# Altium footprint library PCBs.pcblib: 37 footprints (part 2 of 3)
Each footprint in its own frame and in the unit in brackets; x right, y up, seen from the top. Pads: shape width x height; smd on the part's side, far side on the other; paste and mask are expansions set on the pad; w line width, h text height; cw(c..) or ccw(c..) is an arc to the next point about the centre after c.
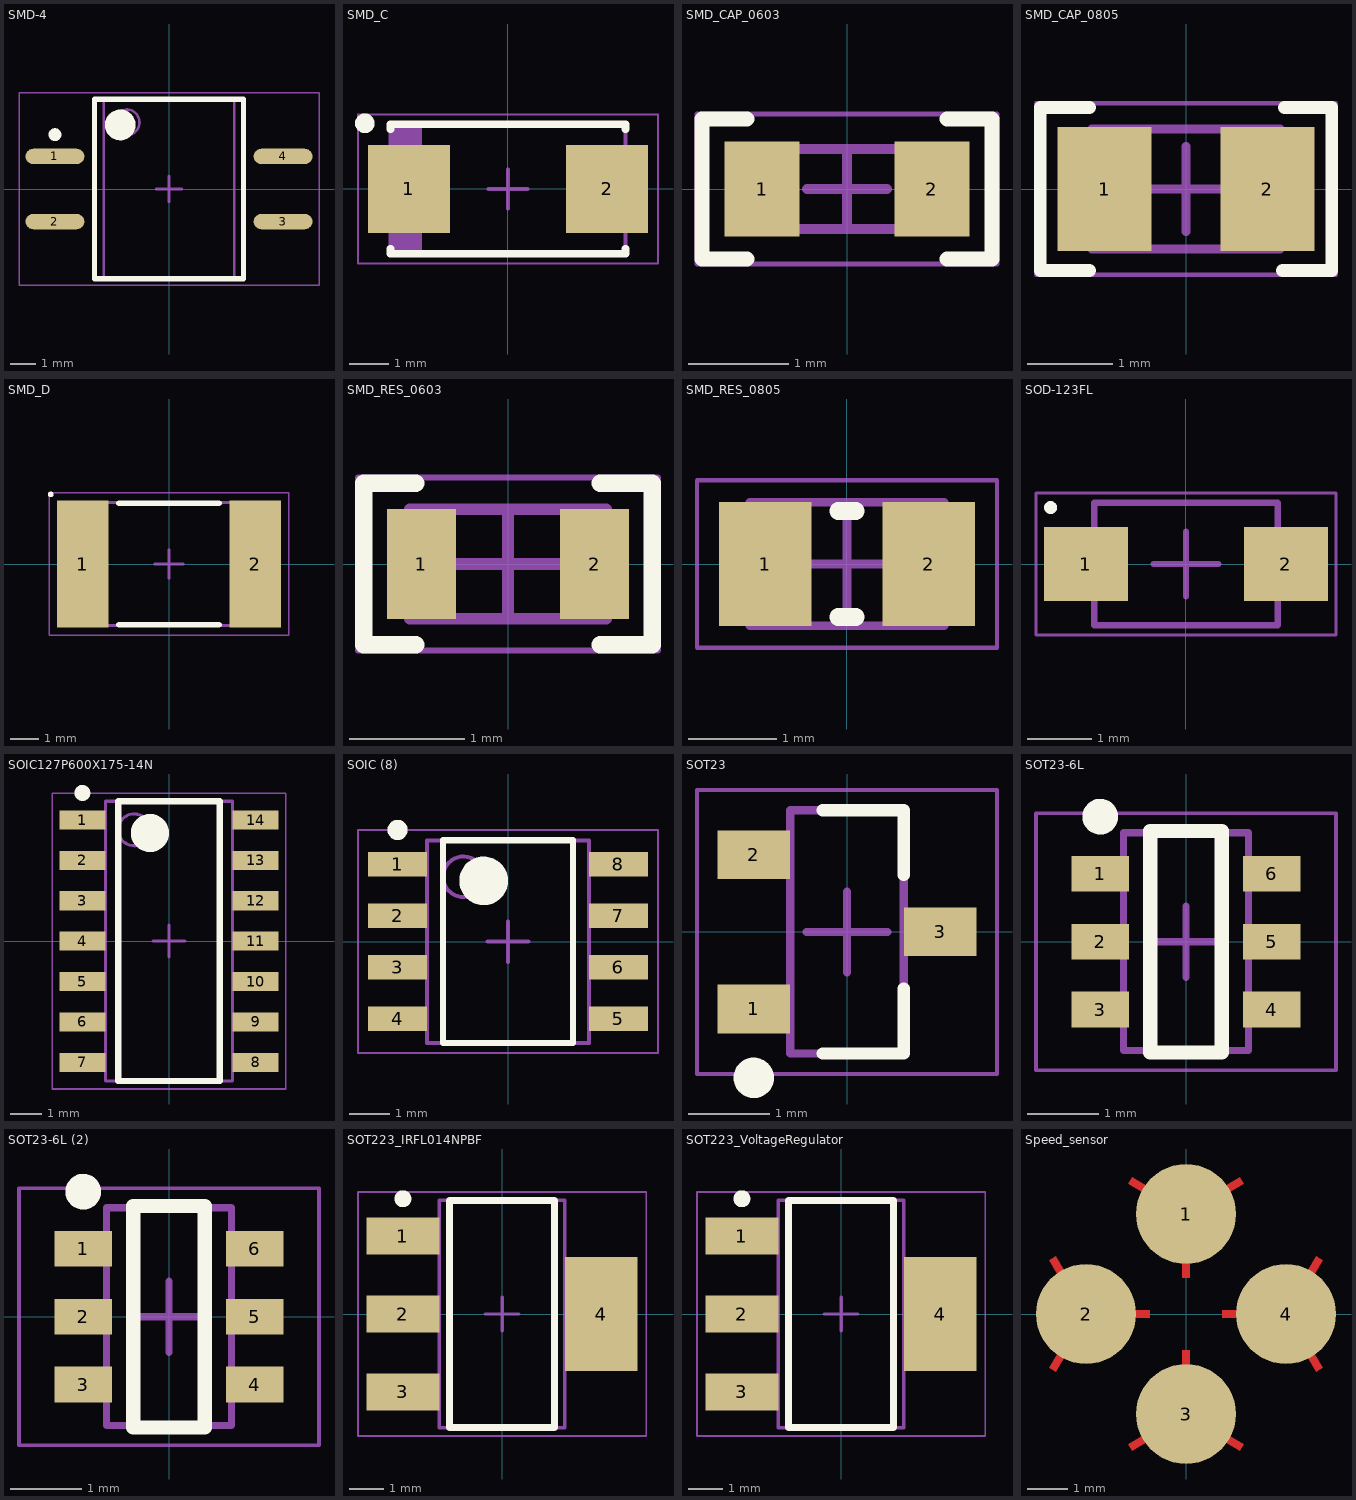
[diagram p1: the footprints below, top view; thin cyan lines are the x and y axes]

## SMD-4 [mm] "SOP, 4-Leads, Body 6,50x4,60mm, Pitch 2,54mm, IPC Medium Density"
height 4
pads (4):
  oval 2.3x0.6 smd: 1(-4.45,1.27) 2(-4.45,-1.27) 3(4.45,-1.27) 4(4.45,1.27)
Top Overlay:
  circle w0.6: c-1.9,2.5 r0.3
  circle w0.25: c-4.45,2.12 r0.125
  lines w0.2: -2.9,-3.5 2.9,-3.5 2.9,3.5 -2.9,3.5 -2.9,-3.5
Mechanical 13:
  circle w0.1: c-1.65,2.6 r0.5
  lines w0.1: -2.55,-3.5 2.55,-3.5 2.55,3.5 -2.55,3.5 -2.55,-3.5
Mechanical 15:
  lines w0.05: -5.85,-3.75 5.85,-3.75 5.85,3.75 -5.85,3.75 -5.85,-3.75
  lines w0.1: -0.5,0 0.5,0 ; 0,-0.5 0,0.5
3D body "SMD-4.step": height 4, standoff 0, extent -5.08,-3.5 5.08,3.5

## SMD_C [mm] "Molded Capacitor, 2-Leads, Body 6,00x3,20mm, IPC Medium Density"
height 2.5
pads (2):
  rect 2.1x2.25 smd: 1(-2.525,0) 2(2.525,0)
Top Overlay:
  circle w0.25: c-3.65,1.675 r0.125
  lines w0.2: -3,-1.525 -3,-1.65 3,-1.65 3,-1.525 ; -3,1.525 -3,1.65 3,1.65 3,1.525
Mechanical 13:
  rectangle: -3,-1.6 -2.193,1.6
  lines w0.1: -3,-1.6 -3,1.6 3,1.6 3,-1.6 -3,-1.6
Mechanical 15:
  lines w0.05: -3.825,-1.9 -3.825,1.9 3.825,1.9 3.825,-1.9 -3.825,-1.9
  lines w0.1: -0.5,0 0.5,0 ; 0,-0.5 0,0.5
3D body "SMD_C.step": height 2.5, standoff 0, extent -3.22,-1.6 3.22,1.6

## SMD_CAP_0603 [mm]
height 0.9
pads (2):
  rect 0.75x0.95 smd: 1(-0.85,0) 2(0.85,0)
Top Overlay:
  lines w0.15: -1,-0.7 -1.45,-0.7 -1.45,0.7 -1,0.7 ; 1,-0.7 1.45,-0.7 1.45,0.7 1,0.7
Mechanical 13:
  lines w0.1: -0.8,-0.4 -0.8,0.4 0.8,0.4 0.8,-0.4 -0.8,-0.4
Mechanical 15:
  lines w0.05: -1.5,-0.75 -1.5,0.75 1.5,0.75 1.5,-0.75 -1.5,-0.75
  lines w0.1: -0.4,0 0.4,0 ; 0,-0.4 0,0.4
3D body "SMD_CAP_0603.step": height 0.9, standoff 0, extent -0.8,-0.4 0.8,0.4

## SMD_CAP_0805 [mm]
height 0.55
pads (2):
  rect 1.1x1.45 smd: 1(-0.95,0) 2(0.95,0)
Top Overlay:
  lines w0.15: -1.125,-0.95 -1.7,-0.95 -1.7,0.95 -1.125,0.95 ; 1.125,-0.95 1.7,-0.95 1.7,0.95 1.15,0.95
Mechanical 13:
  lines w0.1: -1.1,-0.7 -1.1,0.7 1.1,0.7 1.1,-0.7 -1.1,-0.7
Mechanical 15:
  lines w0.05: -1.75,-1 -1.75,1 1.75,1 1.75,-1 -1.75,-1
  lines w0.1: -0.5,0 0.5,0 ; 0,-0.5 0,0.5
3D body "SMD_CAP_0805.step": height 0.55, standoff 0, extent -1.1,-0.7 1.1,0.7

## SMD_D [mm]
height 2.8
pads (2):
  rect 1.8x4.45 smd: 1(-3.025,0) 2(3.025,0)
Top Overlay:
  circle w0.1: c-4.137,2.437 r0.05
  lines w0.2: -1.75,-2.125 1.75,-2.125 ; -1.75,2.125 1.75,2.125
Mechanical 13:
  lines w0.1: -3.5,-2.15 -3.5,2.15 3.5,2.15 3.5,-2.15 -3.5,-2.15
Mechanical 15:
  lines w0.05: -4.2,-2.5 -4.2,2.5 4.2,2.5 4.2,-2.5 -4.2,-2.5
  lines w0.1: -0.5,0 0.5,0 ; 0,-0.5 0,0.5
3D body "SMD_D.step": height 2.8, standoff 0, extent -3.5,-2.15 3.5,2.15

## SMD_RES_0603 [mm] "Chip Resistor, 2-Leads, Body 1,60x0,85mm, IPC Medium Density"
height 0.5
pads (2):
  rect 0.6x0.95 smd: 1(-0.75,0) 2(0.75,0)
Top Overlay:
  lines w0.15: -0.8,-0.7 -1.25,-0.7 -1.25,0.7 -0.8,0.7 ; 0.8,-0.7 1.25,-0.7 1.25,0.7 0.8,0.7
Mechanical 13:
  lines w0.1: -0.85,-0.475 -0.85,0.475 0.85,0.475 0.85,-0.475 -0.85,-0.475
Mechanical 15:
  lines w0.05: -1.3,-0.75 -1.3,0.75 1.3,0.75 1.3,-0.75 -1.3,-0.75
  lines w0.1: -0.475,0 0.475,0 ; 0,-0.475 0,0.475
3D body: height 0.5, standoff 0, extent -0.65,-0.475 0.65,0.475
3D body: height 0.5, standoff 0, extent -0.85,-0.475 -0.65,0.475
3D body: height 0.5, standoff 0, extent 0.65,-0.475 0.85,0.475

## SMD_RES_0805 [mm] "Chip Resistor, 2-Leads, Body 2,10x1,30mm, IPC Medium Density"
height 1.4
pads (2):
  rect 1.05x1.4 smd: 1(-0.925,0) 2(0.925,0)
Top Overlay:
  lines w0.2: -0.1,-0.6 0.1,-0.6 ; -0.1,0.6 0.1,0.6
Mechanical 13:
  lines w0.1: -1.1,-0.7 1.1,-0.7 1.1,0.7 -1.1,0.7 -1.1,-0.7
Mechanical 15:
  lines w0.05: -1.7,-0.95 1.7,-0.95 1.7,0.95 -1.7,0.95 -1.7,-0.95
  lines w0.1: -0.5,0 0.5,0 ; 0,-0.5 0,0.5
3D body "RES_0805.step": height 1.4, standoff 0, extent -1.1,-0.7 1.1,0.7

## SOD-123FL [mm]
height 1.2
pads (2):
  rect 1.3x1.15 smd: 1(-1.55,0) 2(1.55,0)
Top Overlay:
  circle w0.1: c-2.1,0.875 r0.05
Mechanical 13:
  lines w0.1: -1.425,-0.95 1.425,-0.95 1.425,0.95 -1.425,0.95 -1.425,-0.95
Mechanical 15:
  lines w0.05: -2.325,-1.1 2.325,-1.1 2.325,1.1 -2.325,1.1 -2.325,-1.1
  lines w0.1: -0.5,0 0.5,0 ; 0,-0.5 0,0.5
3D body "SOD-123FL.step": height 1.2, standoff 0, extent -1.875,-0.95 1.875,0.95

## SOIC127P600X175-14N [mm] "SOIC, 14-Leads, Body 8,63x3,90mm, Pitch 1,27mm, IPC Medium Density"
height 1.75
pads (14):
  rect 1.45x0.6 smd: 1(-2.725,3.81) 2(-2.725,2.54) 3(-2.725,1.27) 4(-2.725,0) 5(-2.725,-1.27) 6(-2.725,-2.54) 7(-2.725,-3.81) 8(2.725,-3.81) 9(2.725,-2.54) 10(2.725,-1.27) 11(2.725,0) 12(2.725,1.27) 13(2.725,2.54) 14(2.725,3.81)
Top Overlay:
  circle w0.6: c-0.6,3.4 r0.3
  circle w0.25: c-2.725,4.66 r0.125
  lines w0.2: -1.6,-4.4 1.6,-4.4 1.6,4.4 -1.6,4.4 -1.6,-4.4
Mechanical 13:
  circle w0.1: c-1.1,3.5 r0.5
  lines w0.1: -2,-4.4 2,-4.4 2,4.4 -2,4.4 -2,-4.4
Mechanical 15:
  lines w0.05: -3.675,-4.65 3.675,-4.65 3.675,4.65 -3.675,4.65 -3.675,-4.65
  lines w0.1: -0.5,0 0.5,0 ; 0,-0.5 0,0.5
3D body "SOIC127P600X175-14N.step": height 1.75, standoff 0, extent -3,-4.4 3,4.4

## SOIC (8) [mm] "SOIC, 8-Leads, Body 4,90x3,90mm, Pitch 1,27mm, IPC Medium Density"
height 1.75
pads (8):
  rect 1.45x0.6 smd: 1(-2.725,1.905) 2(-2.725,0.635) 3(-2.725,-0.635) 4(-2.725,-1.905) 5(2.725,-1.905) 6(2.725,-0.635) 7(2.725,0.635) 8(2.725,1.905)
Top Overlay:
  circle w0.6: c-0.6,1.5 r0.3
  circle w0.25: c-2.725,2.755 r0.125
  lines w0.15: -1.6,-2.5 1.6,-2.5 1.6,2.5 -1.6,2.5 -1.6,-2.5
Mechanical 13:
  circle w0.1: c-1.1,1.6 r0.5
  lines w0.1: -2,-2.5 2,-2.5 2,2.5 -2,2.5 -2,-2.5
Mechanical 15:
  lines w0.05: -3.7,-2.75 3.7,-2.75 3.7,2.75 -3.7,2.75 -3.7,-2.75
  lines w0.1: -0.5,0 0.5,0 ; 0,-0.5 0,0.5
3D body: height 1.75, standoff 0.1, extent -2,-2.5 2,2.5

## SOT23 [mm] "SOT23, 3-Leads, Body 2,90x2,30mm, Pitch 0,95mm, IPC Medium Density"
height 1.1
pads (3):
  rect 0.9x0.6 smd: 1(-1.15,-0.95) 2(-1.15,0.95) 3(1.15,0)
Top Overlay:
  circle w0.25: c-1.15,-1.8 r0.125
  lines w0.15: -0.3,-1.5 0.7,-1.5 0.7,-0.7 ; -0.3,1.5 0.7,1.5 0.7,0.7
Mechanical 13:
  lines w0.1: -0.7,-1.5 -0.7,1.5 0.7,1.5 0.7,-1.5 -0.7,-1.5
Mechanical 15:
  lines w0.05: -1.85,-1.75 -1.85,1.75 1.85,1.75 1.85,-1.75 -1.85,-1.75
  lines w0.1: -0.5,0 0.5,0 ; 0,-0.5 0,0.5
3D body "SOT230.step": height 1.1, standoff 0, extent -1.3,-1.5 1.3,1.5

## SOT23-6L [mm]
height 1.45
pads (6):
  rect 0.8x0.5 smd: 1(-1.2,0.95) 2(-1.2,0) 3(-1.2,-0.95) 4(1.2,-0.95) 5(1.2,0) 6(1.2,0.95)
Top Overlay:
  circle w0.25: c-1.2,1.75 r0.125
  lines w0.2: -0.5,-1.55 -0.5,1.55 0.5,1.55 0.5,-1.55 -0.5,-1.55
Mechanical 13:
  lines w0.1: -0.875,-1.525 0.875,-1.525 0.875,1.525 -0.875,1.525 -0.875,-1.525
Mechanical 15:
  lines w0.05: -2.1,-1.8 2.1,-1.8 2.1,1.8 -2.1,1.8 -2.1,-1.8
  lines w0.1: -0.5,0 0.5,0 ; 0,-0.5 0,0.5
3D body: height 1.45, standoff 0.1, extent -0.875,-1.525 0.875,1.525

## SOT23-6L (2) [mm]
height 1.45
pads (6):
  rect 0.8x0.5 smd: 1(-1.2,0.95) 2(-1.2,0) 3(-1.2,-0.95) 4(1.2,-0.95) 5(1.2,0) 6(1.2,0.95)
Top Overlay:
  circle w0.25: c-1.2,1.75 r0.125
  lines w0.2: -0.5,-1.55 -0.5,1.55 0.5,1.55 0.5,-1.55 -0.5,-1.55
Mechanical 13:
  lines w0.1: -0.875,-1.525 0.875,-1.525 0.875,1.525 -0.875,1.525 -0.875,-1.525
Mechanical 15:
  lines w0.05: -2.1,-1.8 2.1,-1.8 2.1,1.8 -2.1,1.8 -2.1,-1.8
  lines w0.1: -0.5,0 0.5,0 ; 0,-0.5 0,0.5
3D body: height 1.45, standoff 0.1, extent -0.875,-1.525 0.875,1.525

## SOT223_IRFL014NPBF [mm] "SOT223, 4-Leads, Body 6,50x7,00mm (avg), Pitch 2,30mm, IPC Medium Density"
height 1.8
pads (4):
  rect 2.15x1.1 smd: 1(-2.925,2.3) 2(-2.925,0) 3(-2.925,-2.3)
  rect 2.15x3.35 smd: 4(2.925,0)
Top Overlay:
  circle w0.25: c-2.925,3.4 r0.125
  lines w0.2: -1.55,-3.35 1.55,-3.35 1.55,3.35 -1.55,3.35 -1.55,-3.35
Mechanical 13:
  lines w0.1: -1.85,-3.35 1.85,-3.35 1.85,3.35 -1.85,3.35 -1.85,-3.35
Mechanical 15:
  lines w0.05: -4.25,-3.6 4.25,-3.6 4.25,3.6 -4.25,3.6 -4.25,-3.6
  lines w0.1: -0.5,0 0.5,0 ; 0,-0.5 0,0.5
3D body "SOT223_VoltageRegulator.step": height 1.8, standoff 0, extent -3.5,-3.35 3.5,3.35

## SOT223_VoltageRegulator [mm] "SOT223, 4-Leads, Body 6,50x7,00mm (avg), Pitch 2,30mm, IPC Medium Density"
height 1.8
pads (4):
  rect 2.15x1.1 smd: 1(-2.925,2.3) 2(-2.925,0) 3(-2.925,-2.3)
  rect 2.15x3.35 smd: 4(2.925,0)
Top Overlay:
  circle w0.25: c-2.925,3.4 r0.125
  lines w0.2: -1.55,-3.35 -1.55,3.35 1.55,3.35 1.55,-3.35 -1.55,-3.35
Mechanical 13:
  lines w0.1: -1.85,-3.35 -1.85,3.35 1.85,3.35 1.85,-3.35 -1.85,-3.35
Mechanical 15:
  lines w0.05: -4.25,-3.6 -4.25,3.6 4.25,3.6 4.25,-3.6 -4.25,-3.6
  lines w0.1: -0.5,0 0.5,0 ; 0,-0.5 0,0.5
3D body "SOT223_VoltageRegulator.step": height 1.8, standoff 0, extent -3.5,-3.35 3.5,3.35

## Speed_sensor [mm]
pads (4):
  round 2.5 smd: 1(0,2.5) 2(-2.5,0) 3(0,-2.5) 4(2.5,0)
Top Layer:
  region: 3.052,-1.1 3.252,-1.446 3.425,-1.346 3.225,-1
  region: 1.3,0.1 0.9,0.1 0.9,-0.1 1.3,-0.1
  region: 3.223,1 3.423,1.346 3.25,1.446 3.05,1.1
  region: -3.223,-1 -3.423,-1.346 -3.25,-1.446 -3.05,-1.1
  rectangle: -1.3,-0.1 -0.9,0.1
  region: -3.052,1.1 -3.252,1.446 -3.425,1.346 -3.225,1
  region: -1,3.223 -1.346,3.423 -1.446,3.25 -1.1,3.05
  region: -0.1,1.3 -0.1,0.9 0.1,0.9 0.1,1.3
  region: 1.1,3.052 1.446,3.252 1.346,3.425 1,3.225
  region: 1,-3.223 1.346,-3.423 1.446,-3.25 1.1,-3.05
  region: 0.1,-1.3 0.1,-0.9 -0.1,-0.9 -0.1,-1.3
  region: -1.1,-3.052 -1.446,-3.252 -1.346,-3.425 -1,-3.225